# Altium footprint library generic_2512_resistor.PcbLib: 1 footprints
Each footprint in its own frame and in the unit in brackets; x right, y up, seen from the top. Pads: shape width x height; smd on the part's side, far side on the other; paste and mask are expansions set on the pad; w line width, h text height; cw(c..) or ccw(c..) is an arc to the next point about the centre after c.
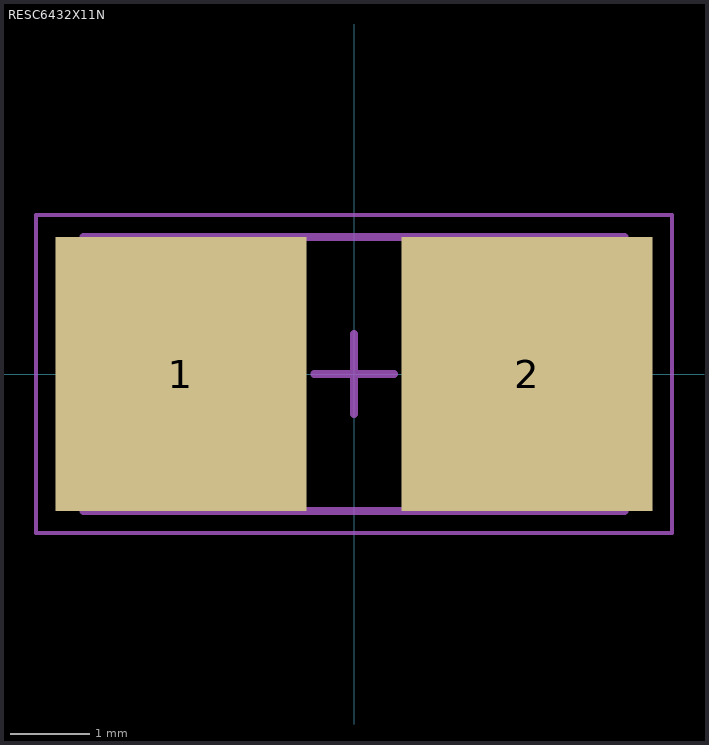
[diagram p0: the footprint, top view; thin cyan lines are the x and y axes]

## RESC6432X11N [mm] "Chip Resistor, 2-Leads, Body 6.40x3.20mm, IPC Medium Density"
height 1.1
pads (2):
  rect 3.15x3.45 smd: 1(-2.175,0) 2(2.175,0)
Mechanical 6:
  text "'.Designator'" at -1.27,-0.381 h0.6
Mechanical 8:
  circle w0.25: c-3.302,1.27 r0.125
  lines w0.05: -4,-2 -4,2 4,2 4,-2 -4,-2
Mechanical 13:
  lines w0.1: -3.4,-1.725 3.4,-1.725 3.4,1.725 -3.4,1.725 -3.4,-1.725
Mechanical 15:
  lines w0.05: -4,-2 4,-2 4,2 -4,2 -4,-2
  lines w0.1: -0.5,0 0.5,0 ; 0,-0.5 0,0.5
3D body "RESC6432X11N.step": height 1.1, standoff 0, extent -3.4,-1.725 3.4,1.725